# Altium schematic symbol library W3011.SchLib: 1 symbol
Pins are listed as number, name and electrical type; pins without a type are passive.

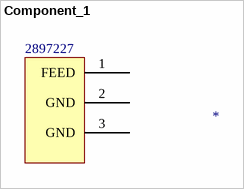
[diagram p0: symbol Component_1]

## Component_1
designator *  Supplier Part Number 1: 2897227  (hidden comment: *)
Supplier 1: Farnell
footprint W3011.PcbLib (Footprint not found)
pins: 1 FEED, 2 GND, 3 GND